# Altium schematic symbol library SCH_Connector.SchLib: 16 symbols
Pins are listed as number, name and electrical type; pins without a type are passive.

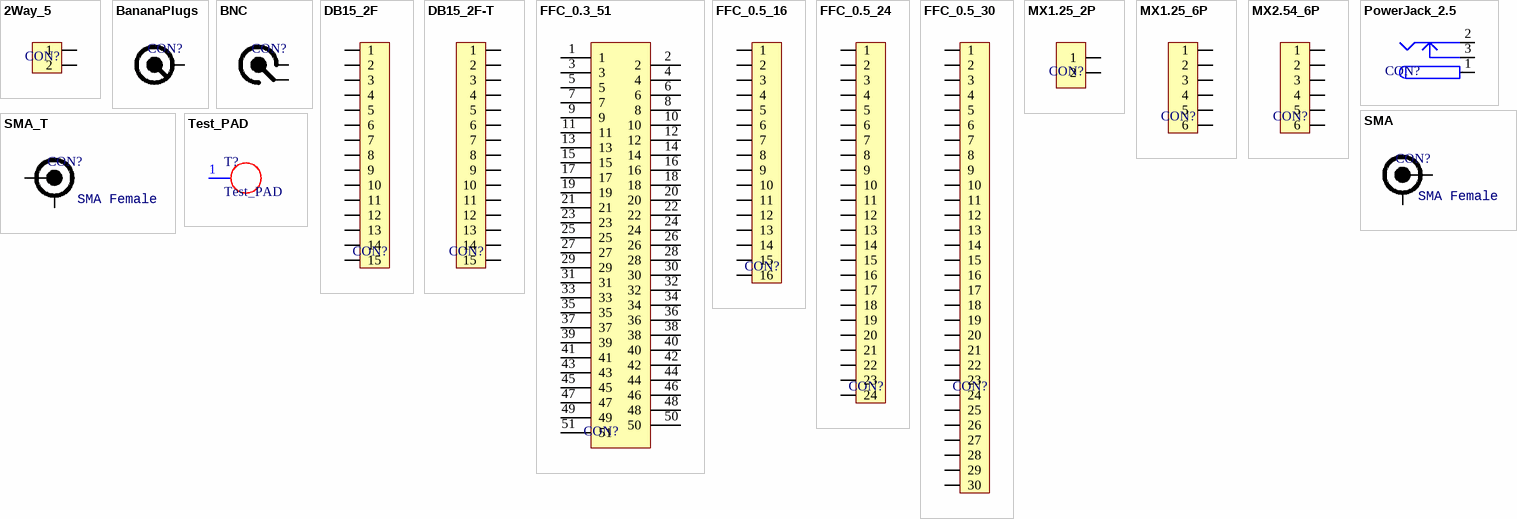
[diagram p0: symbols 2Way_5 to Test_PAD]

## 2Way_5
designator CON?  (value not drawn)
DB
footprint 2Way_5
pins: 1, 2

## BananaPlugs
designator CON?  (value not drawn)
footprint BananaPlugs_Red
footprint BananaPlugs_Black
pins: 1

## BNC
designator CON?  (value not drawn)
footprint BNC_4P
pins: 1, 2

## DB15_2F
designator CON?  (value not drawn)
DB
footprint DB15_2F
pins: 1, 2, 3, 4, 5, 6, 7, 8, 9, 10, 11, 12, 13, 14, 15

## DB15_2F-T
designator CON?  (value not drawn)
DB
footprint DB15_2F
pins: 1, 2, 3, 4, 5, 6, 7, 8, 9, 10, 11, 12, 13, 14, 15

## FFC_0.3_51
designator CON?  (value not drawn)
FFC
footprint FFC_0.3_51
pins: 1, 2, 3, 4, 5, 6, 7, 8, 9, 10, 11, 12, 13, 14, 15, 16, 17, 18, 19, 20, 21, 22, 23, 24, 25, 26, 27, 28, 29, 30, 31, 32, 33, 34, 35, 36, 37, 38, 39, 40, 41, 42, 43, 44, 45, 46, 47, 48, 49, 50, 51

## FFC_0.5_16
designator CON?  (value not drawn)
FFC
footprint FFC_0.5_16
pins: 1, 2, 3, 4, 5, 6, 7, 8, 9, 10, 11, 12, 13, 14, 15, 16

## FFC_0.5_24
designator CON?  (value not drawn)
FFC
footprint FFC_0.5_24 (Connector; FH12 Series; 24 Position; 0.5mm Spaced Bottom Contact)
pins: 1, 2, 3, 4, 5, 6, 7, 8, 9, 10, 11, 12, 13, 14, 15, 16, 17, 18, 19, 20, 21, 22, 23, 24

## FFC_0.5_30
designator CON?  (value not drawn)
FFC
footprint FFC_0.5_30
pins: 1, 2, 3, 4, 5, 6, 7, 8, 9, 10, 11, 12, 13, 14, 15, 16, 17, 18, 19, 20, 21, 22, 23, 24, 25, 26, 27, 28, 29, 30

## MX1.25_2P
designator CON?  (value not drawn)
MX
footprint MX1.25_S90_2P
pins: 1, 2

## MX1.25_6P
designator CON?  (value not drawn)
MX
footprint MX1.25_S90_6P
footprint MX1.25s_S90_6P
pins: 0, 1, 2, 3, 4, 5, 6

## MX2.54_6P
designator CON?  (value not drawn)
MX
footprint MX2.54_S90_6P
pins: 1, 2, 3, 4, 5, 6

## PowerJack_2.5
designator CON?  (value not drawn)
DC Power Jack
footprint KLD_0202
pins: 1 (power), 2 (power), 3 (power)

## SMA
designator CON?  type: SMA Female  (hidden comment: SMA)
footprint SMA_KE_90
pins: 1, 2

## SMA_T
designator CON?  type: SMA Female  (hidden comment: SMA_T)
SMA
footprint SMA_KE_90
pins: 1, 2

## Test_PAD
designator T?
测试点
footprint TP_2.5_4.5
pins: 1